# Altium schematic symbol library Gravix-CAP.SchLib: 9 symbols
Pins are listed as number, name and electrical type; pins without a type are passive.

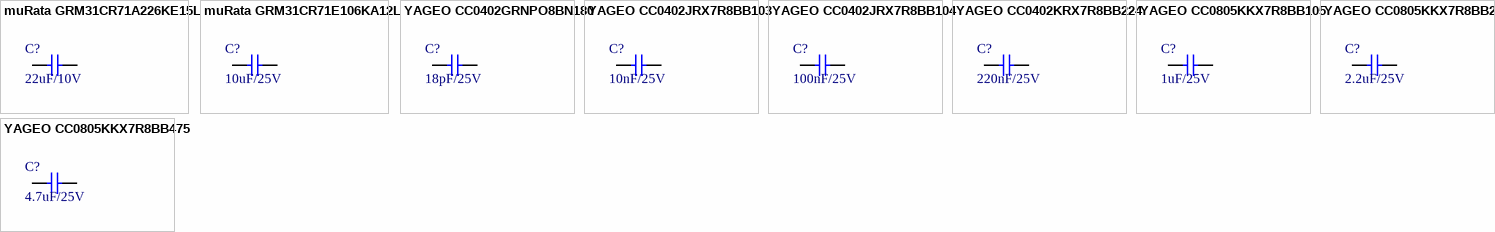
[diagram p0: symbols muRata GRM31CR71A226KE15L to YAGEO CC0805KKX7R8BB475]

## muRata GRM31CR71A226KE15L
designator C?, comment 22uF/10V
22uF ±10% 10V Ceramic Capacitor X7R 1206; Manufacturer: muRata; Manufacturer Part Number: GRM31CR71A226KE15L; LCSC Part Number: C91604; Package: 1206; Mounting Type: SMD; ComponentLink2Description: Digikey Link; ComponentLink3Description: LCSC Link; ComponentLink3URL: https://www.lcsc.com/product-detail/C91604.html?s_z=n_q_C91604
footprint CAP_1206
pins: 1, 2

## muRata GRM31CR71E106KA12L
designator C?, comment 10uF/25V
10uF ±10% 25V Ceramic Capacitor X7R 1206; Manufacturer: muRata; Manufacturer Part Number: GRM31CR71E106KA12L; LCSC Part Number: C77093; Package: 1206; Mounting Type: SMD; ComponentLink2Description: Digikey Link; ComponentLink3Description: LCSC Link; ComponentLink3URL: https://www.lcsc.com/product-detail/C77093.html?spm=wm.fly.bg.1.xh___wm.sxq.dhl.mly.12-0-4&lcsc_vid=QlAIX1RQQQJfX1VRTwcNAQJXTlRaUQBVEQBYAwJfFFcxVlNRT1FaUl1VQVZcUDsOAxUeFF5JWBYZEEoKFBINSQcJGk4%3D
footprint CAP_1206
pins: 1, 2

## YAGEO CC0402GRNPO8BN180
designator C?, comment 18pF/25V
18pF ±2% 25V Ceramic Capacitor NP0 0402; Manufacturer: YAGEO; Manufacturer Part Number: CC0402GRNPO8BN180; LCSC Part Number: C526984; Package: 0402; Mounting Type: SMD; ComponentLink2Description: Digikey Link; ComponentLink3Description: LCSC Link; ComponentLink3URL: https://www.lcsc.com/product-detail/C526984.html?spm=wm.fly.bg.0.xh___wm.fly.dhl.mly.12-0-4&lcsc_vid=QlAIX1RQQQJfX1VRTwcNAQJXTlRaUQBVEQBYAwJfFFcxVlNRQFhYU1xWRFVdXztW
footprint CAP_0402
pins: 1, 2

## YAGEO CC0402JRX7R8BB103
designator C?, comment 10nF/25V
10nF ±5% 25V Ceramic Capacitor X7R 0402; Manufacturer: YAGEO; Manufacturer Part Number: CC0402JRX7R8BB103; LCSC Part Number: C541443; Package: 0402; Mounting Type: SMD; ComponentLink2Description: Digikey Link; ComponentLink3Description: LCSC Link; ComponentLink3URL: https://www.lcsc.com/product-detail/C541443.html?spm=wm.fly.bg.0.xh___wm.sy.dhl.mly.12-0-4&lcsc_vid=QlAIX1RQQQJfX1VRTwcNAQJXTlRaUQBVEQBYAwJfFFcxVlNRT1BcUFBQTlRYVTtW
footprint CAP_0402
pins: 1, 2

## YAGEO CC0402JRX7R8BB104
designator C?, comment 100nF/25V
100nF ±5% 25V Ceramic Capacitor X7R 0402; Manufacturer: YAGEO; Manufacturer Part Number: CC0402JRX7R8BB104; LCSC Part Number: C541465; Package: 0402; Mounting Type: SMD; ComponentLink2Description: Digikey Link; ComponentLink3Description: LCSC Link; ComponentLink3URL: https://www.lcsc.com/product-detail/C541465.html?spm=wm.fly.bg.0.xh___wm.fly.dhl.mly.12-0-4&lcsc_vid=QlAIX1RQQQJfX1VRTwcNAQJXTlRaUQBVEQBYAwJfFFcxVlNRQFhYU1xWRFVdXztW
footprint CAP_0402
pins: 1, 2

## YAGEO CC0402KRX7R8BB224
designator C?, comment 220nF/25V
220nF ±10% 25V Ceramic Capacitor X7R 0402; Manufacturer: YAGEO; Manufacturer Part Number: CC0402KRX7R8BB224; LCSC Part Number: C723566; Package: 0402; Mounting Type: SMD; ComponentLink2Description: Digikey Link; ComponentLink3Description: LCSC Link; ComponentLink3URL: https://www.lcsc.com/product-detail/C723566.html?spm=wm.fly.bg.0.xh___wm.sy.dhl.mly.12-0-4&lcsc_vid=QlAIX1RQQQJfX1VRTwcNAQJXTlRaUQBVEQBYAwJfFFcxVlNRT1BcUFBQTlRYVTtW
footprint CAP_0402
pins: 1, 2

## YAGEO CC0805KKX7R8BB105
designator C?, comment 1uF/25V
1uF ±10% 25V Ceramic Capacitor X7R 0805; Manufacturer: YAGEO; Manufacturer Part Number: CC0805KKX7R8BB105; LCSC Part Number: C91186; Package: 0805; Mounting Type: SMD; ComponentLink2Description: Digikey Link; ComponentLink3Description: LCSC Link; ComponentLink3URL: https://www.lcsc.com/product-detail/C91186.html?spm=wm.fly.bg.0.xh___wm.fly.dhl.mly.12-0-4&lcsc_vid=QlAIX1RQQQJfX1VRTwcNAQJXTlRaUQBVEQBYAwJfFFcxVlNRT1FbV1FfR1JZUDsOAxUeFF5JWBYZEEoKFBINSQcJGk4dAgUUFAk%3D
footprint CAP_0805
pins: 1, 2

## YAGEO CC0805KKX7R8BB225
designator C?, comment 2.2uF/25V
2.2uF ±10% 25V Ceramic Capacitor X7R 0805; Manufacturer: YAGEO; Manufacturer Part Number: CC0805KKX7R8BB225; LCSC Part Number: C277470; Package: 0805; Mounting Type: SMD; ComponentLink2Description: Digikey Link; ComponentLink3Description: LCSC Link; ComponentLink3URL: https://www.lcsc.com/product-detail/C277470.html?spm=wm.fly.bg.0.xh___wm.sy.dhl.mly.12-0-4&lcsc_vid=QlAIX1RQQQJfX1VRTwcNAQJXTlRaUQBVEQBYAwJfFFcxVlNRT1BcUFBQTlRYVTtW
footprint CAP_0805
pins: 1, 2

## YAGEO CC0805KKX7R8BB475
designator C?, comment 4.7uF/25V
4.7uF ±10% 25V Ceramic Capacitor X7R 0805; Manufacturer: YAGEO; Manufacturer Part Number: CC0805KKX7R8BB475; LCSC Part Number: C354262; Package: 0805; Mounting Type: SMD; ComponentLink2Description: Digikey Link; ComponentLink3Description: LCSC Link; ComponentLink3URL: https://www.lcsc.com/product-detail/C354262.html?spm=wm.fly.bg.0.xh___wm.sy.dhl.mly.12-0-4&lcsc_vid=QlAIX1RQQQJfX1VRTwcNAQJXTlRaUQBVEQBYAwJfFFcxVlNRT1BXUFVTRlNXVDtW
footprint CAP_0805
pins: 1, 2